# Altium footprint library rcl.PCBLIB: 489 footprints (part 30 of 31)
Each footprint in its own frame and in the unit in brackets; x right, y up, seen from the top. Pads: shape width x height; smd on the part's side, far side on the other; paste and mask are expansions set on the pad; w line width, h text height; cw(c..) or ccw(c..) is an arc to the next point about the centre after c.
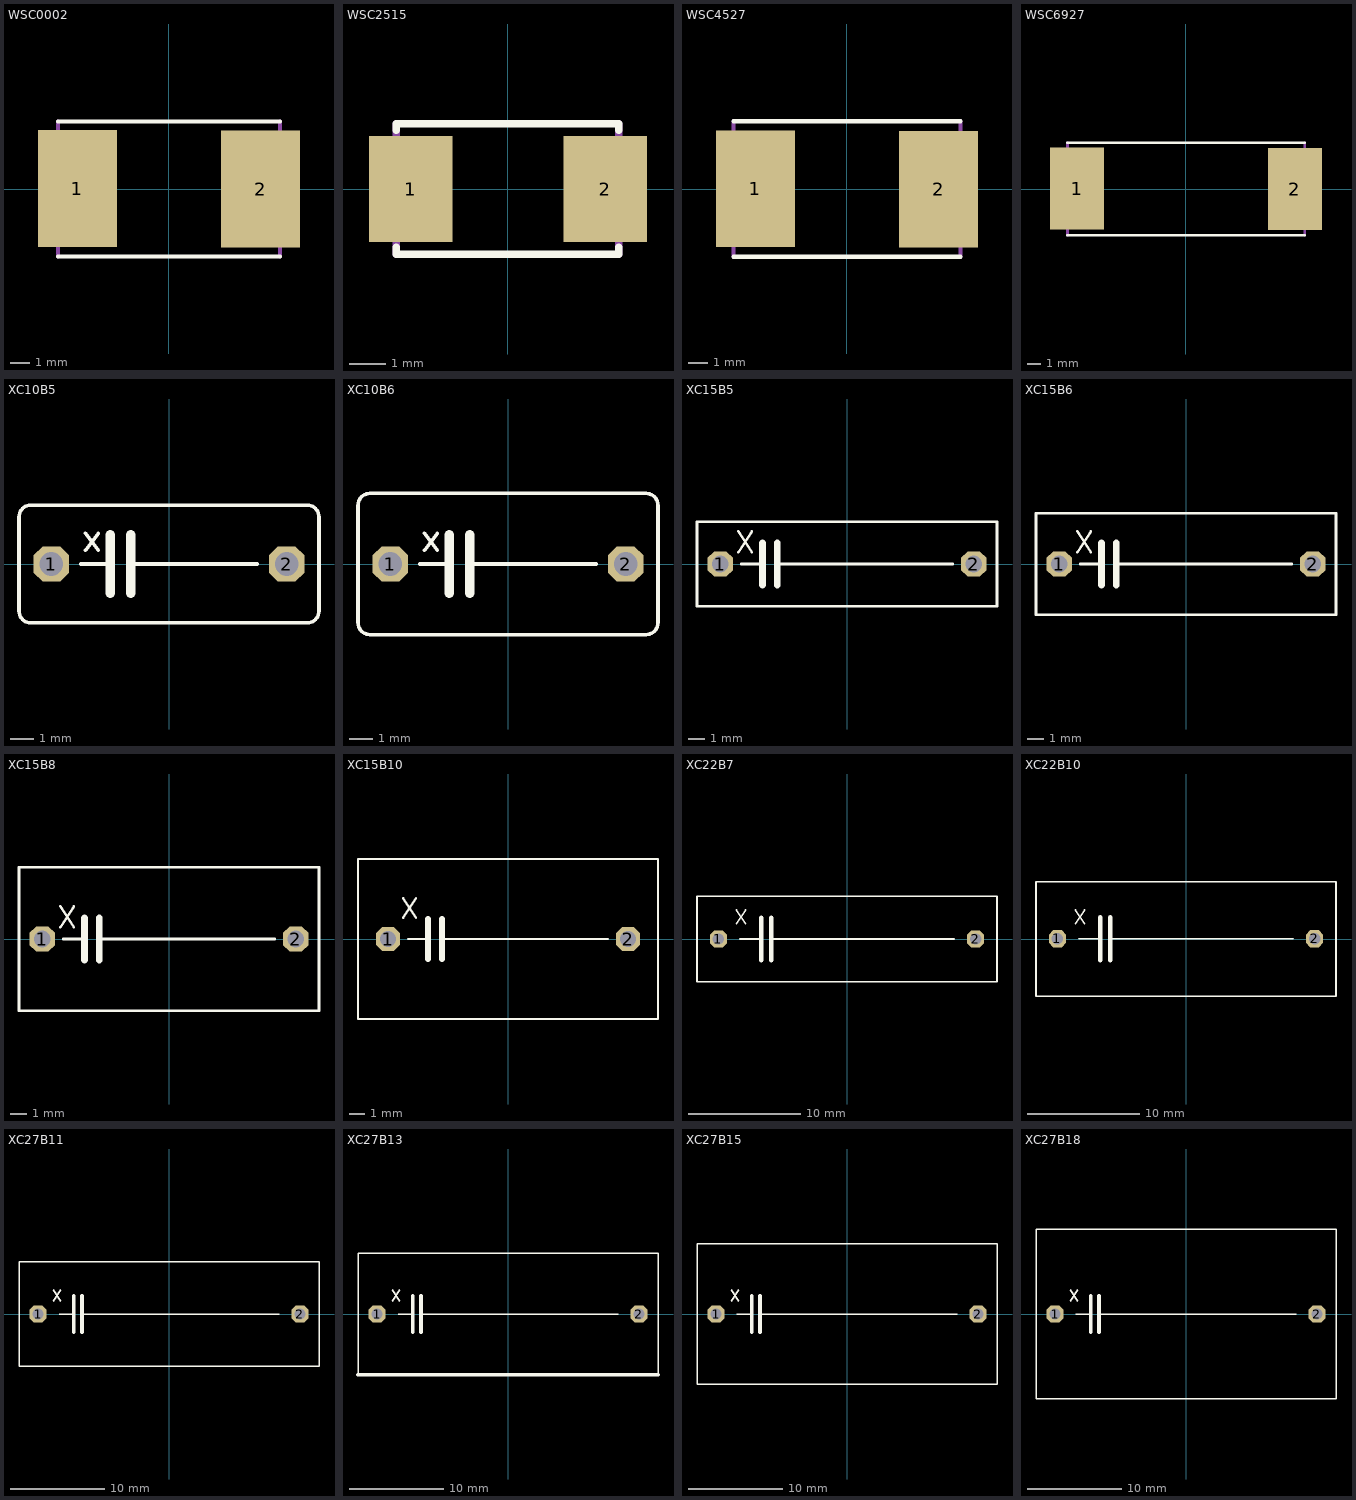
[diagram p29: the footprints below, top view; thin cyan lines are the x and y axes]

## WSC0002 [mil]
pads (2):
  rect 156x230 smd: 1(-180.12,1) 2(181,0)
Top Overlay:
  lines w8: -218.5,-132.87 219,-132.87 ; -218.5,133 219,133
Mechanical 16:
  lines w8: -218.5,-132.87 -218.5,133 ; 219,-132.87 219,133

## WSC2515 [mil]
pads (2):
  rect 91x115 smd: 1(-105.31,0) 2(106,0)
Top Overlay:
  lines w8: -121.06,-63.23 -121.06,-70.87 121,-70.87 121,-63.23 ; -121.06,64 -121.06,71 121,71 121,64
Mechanical 16:
  lines w8: -121.06,-70.87 -121.06,71 ; 121,-70.87 121,71

## WSC4527 [mil]
pads (2):
  rect 156x230 smd: 1(-180.12,1) 2(181,0)
Top Overlay:
  lines w8: -223.43,-132.87 224,-132.87 ; -223.43,134 224,134
Mechanical 16:
  lines w8: -223.43,-132.87 -223.43,134 ; 224,-132.87 224,134

## WSC6927 [mil]
pads (2):
  rect 156x236 smd: 1(-312.99,1) 2(313,0)
Top Overlay:
  lines w8: -340.55,-132.87 341,-132.87 ; -340.55,133 341,133
Mechanical 16:
  lines w8: -340.55,-132.87 -340.55,133 ; 341,-132.87 341,133

## XC10B5 [mil]
pads (2):
  oct 60x60 hole 40: 1(-200,0) 2(200,0)
Top Overlay:
  lines w6: -150,0 -100,0 ; -142,23 -120,52 ; -142,52 -120,23 ; -65,0 150,0 ; -255,-80 -255,80 cw(c-235,80) -235,100 235,100 cw(c235,80) 255,80 255,-80 cw(c235,-80) 235,-100 -235,-100 cw(c-235,-80) -255,-80
  lines w16: -100,-50 -100,0 -100,50 ; -65,-50 -65,0 -65,50

## XC10B6 [mil]
pads (2):
  oct 60x60 hole 40: 1(-200,0) 2(200,0)
Top Overlay:
  lines w6: -150,0 -100,0 ; -142,23 -120,52 ; -142,52 -120,23 ; -65,0 150,0 ; -255,-100 -255,100 cw(c-235,100) -235,120 235,120 cw(c235,100) 255,100 255,-100 cw(c235,-100) 235,-120 -235,-120 cw(c-235,-100) -255,-100
  lines w16: -100,-50 -100,0 -100,50 ; -65,-50 -65,0 -65,50

## XC15B5 [mil]
pads (2):
  oct 60x60 hole 40: 1(-300,0) 2(300,0)
Top Overlay:
  lines w6: -257,28 -225,77 ; -257,77 -225,28 ; -250,0 -200,0 ; -165,0 250,0 ; -355,-100 355,-100 355,100 -355,100 -355,-100
  lines w16: -200,-50 -200,0 -200,50 ; -165,-50 -165,0 -165,50

## XC15B6 [mil]
pads (2):
  oct 60x60 hole 40: 1(-300,0) 2(300,0)
Top Overlay:
  lines w6: -257,28 -225,77 ; -257,77 -225,28 ; -250,0 -200,0 ; -165,0 250,0 ; -355,-120 355,-120 355,120 -355,120 -355,-120
  lines w16: -200,-50 -200,0 -200,50 ; -165,-50 -165,0 -165,50

## XC15B8 [mil]
pads (2):
  oct 60x60 hole 40: 1(-300,0) 2(300,0)
Top Overlay:
  lines w6: -257,28 -225,77 ; -257,77 -225,28 ; -250,0 -200,0 ; -165,0 250,0 ; -355,-170 355,-170 355,170 -355,170 -355,-170
  lines w16: -200,-50 -200,0 -200,50 ; -165,-50 -165,0 -165,50

## XC15B10 [mil]
pads (2):
  oct 60x60 hole 40: 1(-300,0) 2(300,0)
Top Overlay:
  lines w6: -262,53 -230,102 ; -262,102 -230,53 ; -250,0 -200,0 ; -165,0 250,0 ; -375,-200 375,-200 375,200 -375,200 -375,-200
  lines w16: -200,-50 -200,0 -200,50 ; -165,-50 -165,0 -165,50

## XC22B7 [mil]
pads (2):
  oct 60x60 hole 40: 1(-450,0) 2(450,0)
Top Overlay:
  lines w6: -387,53 -355,102 ; -387,102 -355,53 ; -375,0 -300,0 ; -265,0 375,0 ; -525,-150 525,-150 525,150 -525,150 -525,-150
  lines w16: -300,-75 -300,0 -300,75 ; -265,-75 -265,0 -265,75

## XC22B10 [mil]
pads (2):
  oct 60x60 hole 40: 1(-450,1) 2(450,1)
Top Overlay:
  lines w6: -387,53 -355,102 ; -387,102 -355,53 ; -375,1 -300,1 ; -265,1 375,1 ; -525,-200 525,-200 525,200 -525,200 -525,-200
  lines w16: -300,-74 -300,1 -300,76 ; -265,-74 -265,1 -265,76

## XC27B11 [mil]
pads (2):
  oct 70.5x70.5 hole 47: 1(-550,0) 2(550,0)
Top Overlay:
  lines w6: -487,53 -455,102 ; -487,102 -455,53 ; -462,0 -400,0 ; -365,0 462,0 ; -630,-220 630,-220 630,220 -630,220 -630,-220
  lines w16: -400,-75 -400,0 -400,75 ; -365,-75 -365,0 -365,75

## XC27B13 [mil]
pads (2):
  oct 70.5x70.5 hole 47: 1(-550,0) 2(550,0)
Top Overlay:
  lines w6: -630,-255 -630,255 630,255 630,-255 ; -487,53 -455,102 ; -487,102 -455,53 ; -462,0 -400,0 ; -365,0 462,0
  lines w16: -630,-255 630,-255 ; -400,-75 -400,0 -400,75 ; -365,-75 -365,0 -365,75

## XC27B15 [mil]
pads (2):
  oct 70.5x70.5 hole 47: 1(-550,0) 2(550,0)
Top Overlay:
  lines w6: -487,53 -455,102 ; -487,102 -455,53 ; -463,0 -400,0 ; -365,0 462,0 ; -630,-295 630,-295 630,295 -630,295 -630,-295
  lines w16: -400,-75 -400,0 -400,75 ; -365,-75 -365,0 -365,75

## XC27B18 [mil]
pads (2):
  oct 70.5x70.5 hole 47: 1(-550,0) 2(550,0)
Top Overlay:
  lines w6: -487,53 -455,102 ; -487,102 -455,53 ; -463,0 -400,0 ; -365,0 462,0 ; -630,-355 630,-355 630,355 -630,355 -630,-355
  lines w16: -400,-75 -400,0 -400,75 ; -365,-75 -365,0 -365,75